# Altium schematic symbol library CH552G.SCHLIB: 1 symbol
Pins are listed as number, name and electrical type; pins without a type are passive.

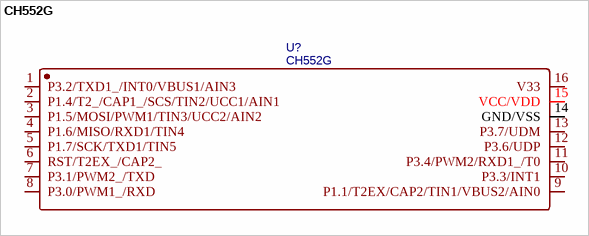
[diagram p0: symbol CH552G]

## CH552G
designator U?
BOM_Manufacturer: WCH; SMT Type: Extend; BOM_Supplier: LCSC; BOM_Manufacturer Part: CH552G; BOM_Supplier Part: C111292; BOM_JLCPCB SMD: Yes; spicePre: U; spiceSymbolName: CH552G
footprint SOP-16_L10.0-W3.9-P1.27-LS6.0-BL
pins: 1 P3.2/TXD1_/INT0/VBUS1/AIN3, 2 P1.4/T2_/CAP1_/SCS/TIN2/UCC1/AIN1, 3 P1.5/MOSI/PWM1/TIN3/UCC2/AIN2, 4 P1.6/MISO/RXD1/TIN4, 5 P1.7/SCK/TXD1/TIN5, 6 RST/T2EX_/CAP2_, 7 P3.1/PWM2_/TXD, 8 P3.0/PWM1_/RXD, 9 P1.1/T2EX/CAP2/TIN1/VBUS2/AIN0, 10 P3.3/INT1, 11 P3.4/PWM2/RXD1_/T0, 12 P3.6/UDP, 13 P3.7/UDM, 14 GND/VSS, 15 VCC/VDD, 16 V33